# EAGLE library part SN74LVC1G11 (library 74LV)
3-IN AND GATE
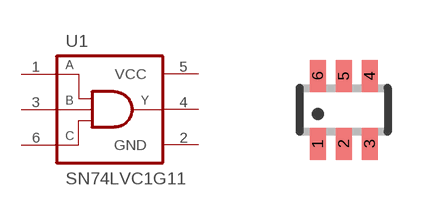
[diagram p8: symbol with the pads of SOT363; footprint SOT363]

Designator prefix U1

## SN74LVC1G11GW  [SOT363]
1  A  in
2  GND  pwr
3  B  in
4  Y  out
5  VCC  pwr
6  C  in

## Footprint SOT363 (pad centres in mm)
Small Outline Transistor; 6 leads
smd 0.4 x 0.8: 1 -0.65,-0.85; 2 0,-0.85; 3 0.65,-0.85; 4 0.65,0.85; 5 0,0.85; 6 -0.65,0.85